# EAGLE library part LAN9252 (library LAN9252)
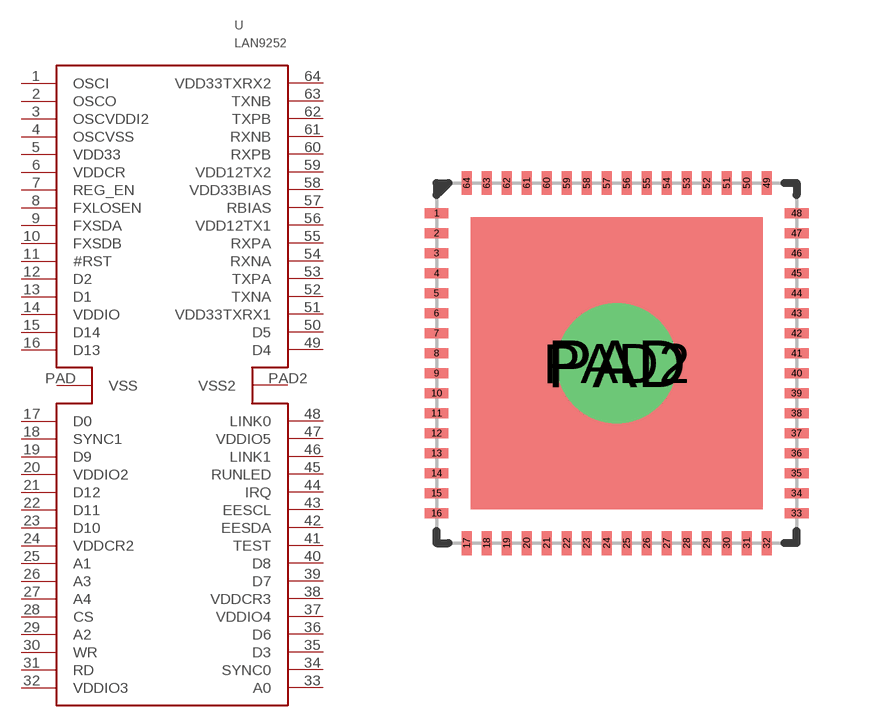
[diagram p1: symbol with the pads of QFN-64_02; footprint QFN-64_02]

Designator prefix -

## LAN9252  [QFN-64_02]
1  OSCI
2  OSCO
3  OSCVDDI2
4  OSCVSS
5  VDD33
6  VDDCR
7  REG_EN
8  FXLOSEN
9  FXSDA
10  FXSDB
11  #RST
12  D2
13  D1
14  VDDIO
15  D14
16  D13
17  D0
18  SYNC1
19  D9
20  VDDIO2
21  D12
22  D11
23  D10
24  VDDCR2
25  A1
26  A3
27  A4
28  CS
29  A2
30  WR
31  RD
32  VDDIO3
33  A0
34  SYNC0
35  D3
36  D6
37  VDDIO4
38  VDDCR3
39  D7
40  D8
41  TEST
42  EESDA
43  EESCL
44  IRQ
45  RUNLED
46  LINK1
47  VDDIO5
48  LINK0
49  D4
50  D5
51  VDD33TXRX1
52  TXNA
53  TXPA
54  RXNA
55  RXPA
56  VDD12TX1
57  RBIAS
58  VDD33BIAS
59  VDD12TX2
60  RXPB
61  RXNB
62  TXPB
63  TXNB
64  VDD33TXRX2
PAD  VSS
PAD2  VSS2

## Footprint QFN-64_02 (pad centres in mm)
smd 0.6 x 0.25: 1 -4.5,3.75; 2 -4.5,3.25; 3 -4.5,2.75; 4 -4.5,2.25; 5 -4.5,1.75; 6 -4.5,1.25; 7 -4.5,0.75; 8 -4.5,0.25; 9 -4.5,-0.25; 10 -4.5,-0.75; 11 -4.5,-1.25; 12 -4.5,-1.75; 13 -4.5,-2.25; 14 -4.5,-2.75; 15 -4.5,-3.25; 16 -4.5,-3.75; 33 4.5,-3.75; 34 4.5,-3.25; 35 4.5,-2.75; 36 4.5,-2.25; 37 4.5,-1.75; 38 4.5,-1.25; 39 4.5,-0.75; 40 4.5,-0.25; 41 4.5,0.25; 42 4.5,0.75; 43 4.5,1.25; 44 4.5,1.75; 45 4.5,2.25; 46 4.5,2.75; 47 4.5,3.25; 48 4.5,3.75
smd 0.25 x 0.6: 17 -3.75,-4.5; 18 -3.25,-4.5; 19 -2.75,-4.5; 20 -2.25,-4.5; 21 -1.75,-4.5; 22 -1.25,-4.5; 23 -0.75,-4.5; 24 -0.25,-4.5; 25 0.25,-4.5; 26 0.75,-4.5; 27 1.25,-4.5; 28 1.75,-4.5; 29 2.25,-4.5; 30 2.75,-4.5; 31 3.25,-4.5; 32 3.75,-4.5; 49 3.75,4.5; 50 3.25,4.5; 51 2.75,4.5; 52 2.25,4.5; 53 1.75,4.5; 54 1.25,4.5; 55 0.75,4.5; 56 0.25,4.5; 57 -0.25,4.5; 58 -0.75,4.5; 59 -1.25,4.5; 60 -1.75,4.5; 61 -2.25,4.5; 62 -2.75,4.5; 63 -3.25,4.5; 64 -3.75,4.5
smd 7.3 x 7.3: PAD 0,0
drill 2: PAD2 0,0